# Altium schematic symbol library 12V_5V_buck.SchLib: 8 symbols
Pins are listed as number, name and electrical type; pins without a type are passive.

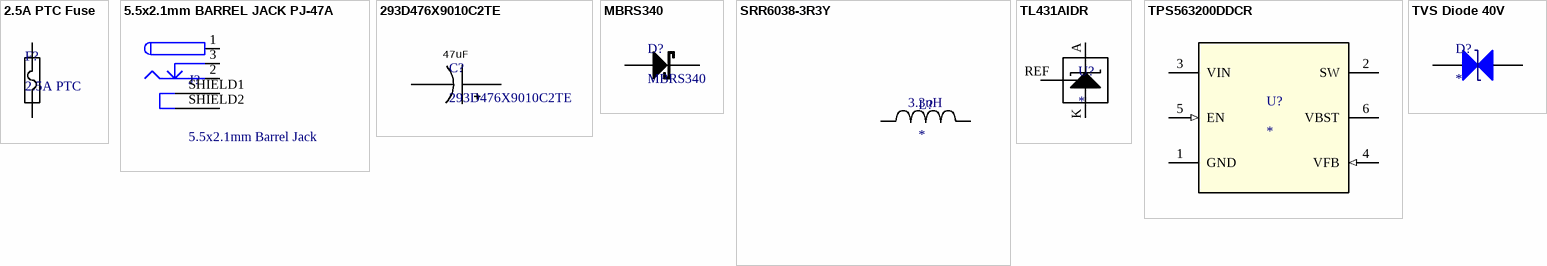
[diagram p0: symbols 2.5A PTC Fuse to TVS Diode 40V]

## 2.5A PTC Fuse
designator F?, comment 2.5A PTC
Supplier 1: Digi-Key; Supplier Part Number 1: 507-1750-1-ND
footprint PTC Fuse: 2920 (Chip Resistor, 2-Leads, Body 7.36x5.12mm, IPC Low Density)
pins: 1, 2

## 5.5x2.1mm BARREL JACK PJ-47A
designator J?, comment 5.5x2.1mm Barrel Jack
Low Voltage Power Supply Connector; Published: 17-Dec-2003; DatasheetDocument: 09-May-2002; Publisher: Altium Limited; ComponentLink1Description: Manufacturer Link; ComponentLink1URL: http://domino.kycon.com/internet/Products.html; Supplier 1: Digi-Key; Supplier Part Number 1: CP-047A-ND
footprint 5.5x2.1mm BARREL JACK PJ-47A
pins: 1 (power), 2 (power), 3 (power), SHIELD1, SHIELD2

## 293D476X9010C2TE
designator C?  value 47uF
Imported; Manufacturer_Part_Number: 293D476X9010C2TE3; Vendor: Vishay-Sprague; Type: DEV; Manufacturer_Name: Vishay-Sprague; RefDes: RefDes; Supplier 1: Digi-Key; Supplier Part Number 1: 718-1087-1-ND
footprint 6032-28
pins: 1 +, 2 -

## MBRS340
designator D?
Supplier 1: Digi-Key; Supplier Part Number 1: MBRS340T3GOSCT-ND
footprint MBRS340_DO-214AB
pins: A, K

## SRR6038-3R3Y
designator L?  value 3.3uH
Imported; Manufacturer_Part_Number: SRR6038-3R3Y; Vendor: Bourns; Type: DEV; Manufacturer_Name: Bourns; RefDes: RefDes; Supplier 1: Digi-Key; Supplier Part Number 1: SRR6038-3R3YCT-ND
footprint SRR6038
pins: 1, 2

## TL431AIDR
designator U?
Supplier 1: Digi-Key; Supplier Part Number 1: 296-1288-1-ND
footprint TL431AIDR-SOIC8 (SOIC, 8-Leads, Body 4.90x3.90mm, Pitch 1.27mm, IPC Low Density)
pins: A, K, REF

## TPS563200DDCR
designator U?
Imported; PartNumber: TPS563200DDC; Alternate Manufacturer: None; Manufacturer: Texas Instruments; Manufacturer_Part_Number: TPS563200DDCR; CurrentTime: Not shown in title block; DocumentNumber: 1; SymbolCreator: a0411947; CompType: IC; U/M: EA; Designator: U?; PIN_COUNT: 6; CurrentDate: Not shown in title block; Time: Not shown in title block; Date: Not shown in title block; DocumentFullPathAndName: Not shown in title block; DocumentName: Not shown in title block; ModifiedDate: Not shown in title block; ApprovedBy: Not shown in title block; CheckedBy: Not shown in title block; Author: Not shown in title block; CompanyName: Not shown in title block; Engineer: Not shown in title block; Organization: Not shown in title block; Address1: Not shown in title block; Address2: Not shown in title block; Address3: Not shown in title block; Address4: Not shown in title block; Revision: Use project parameter SCH_Rev; SheetNumber: 1; SheetTotal: 1; ImagePath: Not shown in title block; Rule: *; ProjectName: *; SymbolVersion: 2014-04-11; PackageReference: DDC0006A; MountType: SMT; ComponentLink1Description: Datasheet Link; ComponentLink1URL: https://sps06.itg.ti.com/sites/KMS/crossdivteams/altium/docs/ComponentDatasheets/TPS56320xDDC_User's_Guide_v0p1_14_0203.pdf; RoHS: Y; Publisher: Texas Instruments; LatestRevisionDate: 2014-04-14; Manufacturer_Name: Texas Instruments; RefDes: RefDes; Type: DEV; Value: Value; Supplier 1: Digi-Key; Supplier Part Number 1: 296-43663-1-ND
footprint DDC0006A
pins: 1 GND (power), 2 SW (power), 3 VIN (power), 4 VFB (in), 5 EN (in), 6 VBST (power)

## TVS Diode 40V
designator D?
Supplier 1: Digi-Key; Supplier Part Number 1: 641-1660-1-ND
footprint TVS_SOD-123F
pins: A, K